# Altium schematic symbol library powerbankLCD.SCHLIB: 15 symbols
Pins are listed as number, name and electrical type; pins without a type are passive.

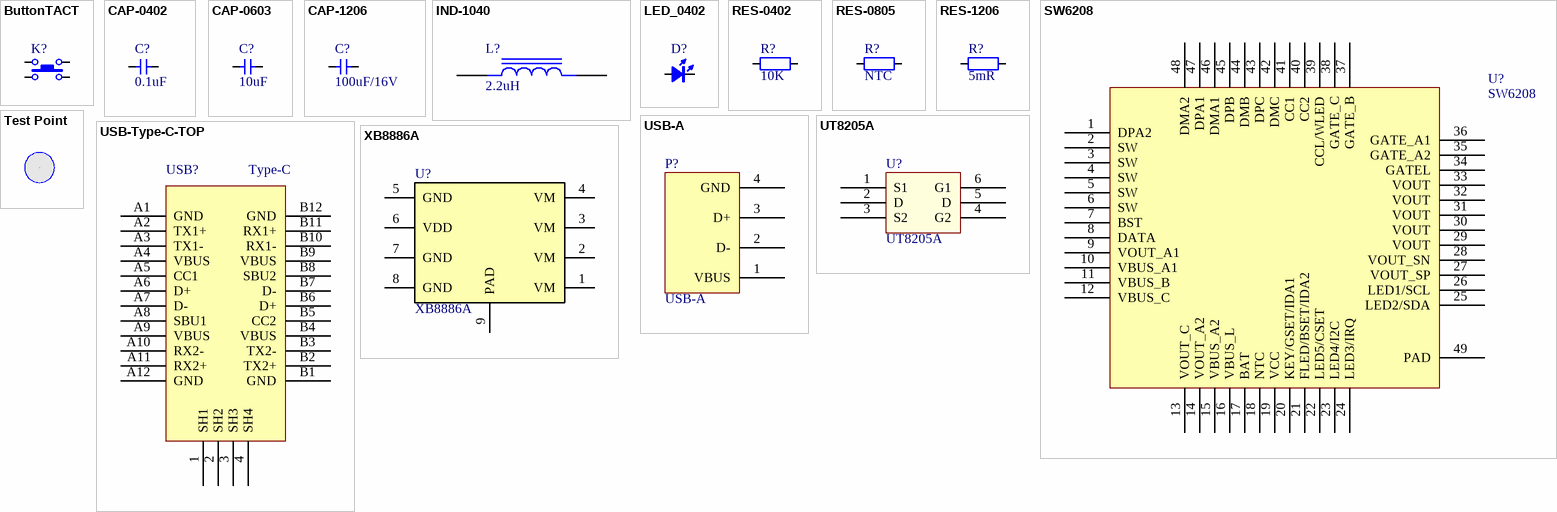
[diagram p0: symbols ButtonTACT to XB8886A]

## ButtonTACT
designator K?, comment TACT 4P  (value not drawn)
Button; value: 3.4x3.5; type: TACT 4P
footprint ButtonTACT_3.5*3.55_90
footprint ButtonTACT_3.4*3.5_90
pins: 1, 2, 3, 4

## CAP-0402
designator C?, comment 0.1uF
Capacitor; Value: 0.1u
footprint CAP_0402
pins: 1, 2

## CAP-0603
designator C?, comment 10uF
Capacitor; Value: 0.1u
footprint 0603-CAP
pins: 1, 2

## CAP-1206
designator C?, comment 100uF/16V
Capacitor; Value: 0.1u
footprint 1206-CAP
pins: 1, 2

## IND-1040
designator L?, comment 2.2uH
Fixed Inductors 4.7uH 30% SMD 1240; MF: Bourns; MP: SRR1240-4R7Y; Price: None; SnapEDA_Link: https://www.snapeda.com/parts/SRR1240-4R7Y/Bourns/view-part/1646614/?ref=snap; Check_prices: https://www.snapeda.com/parts/SRR1240-4R7Y/Bourns/view-part/1646614/?ref=eda; Availability: Bad; Package: None; Value: *
footprint IND_1040
pins: 1, 2

## LED_0402
designator D?, comment color?  (value not drawn)
LED; Type: 0402; Value: color?
footprint LED_0402_RED
footprint LED_0402_BLUE
footprint LED_0402_ORANGE
footprint LED_0402_YELLOW
footprint LED_0402_GREEN
pins: 1 A, 2 K

## RES-0402
designator R?, comment 10K
Resistor; Value: 22R
footprint RES_0402
pins: 1, 2

## RES-0805
designator R?, comment NTC
Resistor; Value: 22R
footprint 0805-L
pins: 1, 2

## RES-1206
designator R?, comment 5mR
Resistor; Value: 22R
footprint 1206-RES
pins: 1, 2

## SW6208
designator U?
PMIC
footprint QFN-48_6x6
pins: 1 DPA2, 2 SW, 3 SW, 4 SW, 5 SW, 6 SW, 7 BST, 8 DATA, 9 VOUT_A1, 10 VBUS_A1, 11 VBUS_B, 12 VBUS_C, 13 VOUT_C, 14 VOUT_A2, 15 VBUS_A2, 16 VBUS_L, 17 BAT, 18 NTC, 19 VCC, 20 KEY/GSET/IDA1, 21 FLED/BSET/IDA2, 22 LED5/CSET, 23 LED4/I2C, 24 LED3/IRQ, 25 LED2/SDA, 26 LED1/SCL, 27 VOUT_SP, 28 VOUT_SN, 29 VOUT, 30 VOUT, 31 VOUT, 32 VOUT, 33 VOUT, 34 GATEL, 35 GATE_A2, 36 GATE_A1, 37 GATE_B, 38 GATE_C, 39 CCL/WLED, 40 CC2, 41 CC1, 42 DMC, 43 DPC, 44 DMB, 45 DPB, 46 DMA1, 47 DPA1, 48 DMA2, 49 PAD

## Test Point
designator T?, comment 测试点  (value not drawn)
footprint TEST_PT
pins: 0

## USB-A
designator P?
footprint USB-Short
pins: 1 VBUS, 2 D-, 3 D+, 4 GND

## USB-Type-C-TOP
designator USB?, comment Type-C
footprint Type-C-TOP
pins: 1 SH1, 2 SH2, 3 SH3, 4 SH4, A1 GND, A2 TX1+, A3 TX1-, A4 VBUS, A5 CC1, A6 D+, A7 D-, A8 SBU1, A9 VBUS, A10 RX2-, A11 RX2+, A12 GND, B1 GND, B2 TX2+, B3 TX2-, B4 VBUS, B5 CC2, B6 D+, B7 D-, B8 SBU2, B9 VBUS, B10 RX1-, B11 RX1+, B12 GND

## UT8205A
designator U?
footprint SOT23-6
pins: 1 S1, 2 D, 3 S2, 4 G2, 5 D, 6 G1

## XB8886A
designator U?
MF: Texas Instruments; MP: NE5532D; Value: *; Package: SOIC-8 Texas Instruments; Price: None; Availability: Unavailable; SnapEDA_Link: https://www.snapeda.com/parts/NE5532D/Texas%20Instruments/view-part/4299479/?ref=snap
footprint SO-8-PAD
pins: 1 VM, 2 VM, 3 VM, 4 VM, 5 GND, 6 VDD, 7 GND, 8 GND, 9 PAD